# EAGLE library part T3168 (library ZippyComponentLibrary)
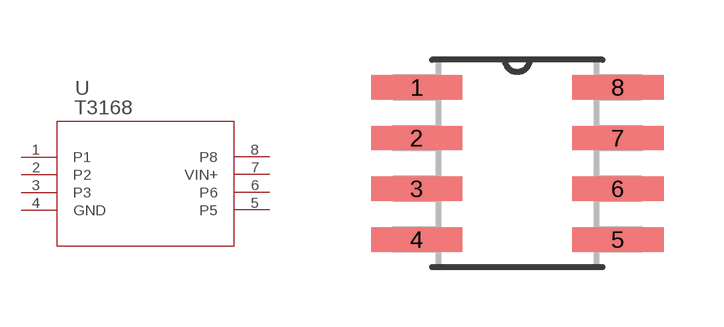
[diagram p6: symbol with the pads of D8-M; footprint D8-M]

Designator prefix -

## T3168  [D8-M]
1  P1  nc
2  P2  in
3  P3  in
4  GND  out
5  P5  out
6  P6  nc
7  VIN+  pwr
8  P8  nc

## Footprint D8-M (pad centres in mm)
smd 2.286 x 0.61: 1 -2.515,1.905; 2 -2.515,0.635; 3 -2.515,-0.635; 4 -2.515,-1.905; 5 2.515,-1.905; 6 2.515,-0.635; 7 2.515,0.635; 8 2.515,1.905